# Altium footprint library resistor-net.PCBLIB: 12 footprints
Each footprint in its own frame and in the unit in brackets; x right, y up, seen from the top. Pads: shape width x height; smd on the part's side, far side on the other; paste and mask are expansions set on the pad; w line width, h text height; cw(c..) or ccw(c..) is an arc to the next point about the centre after c.
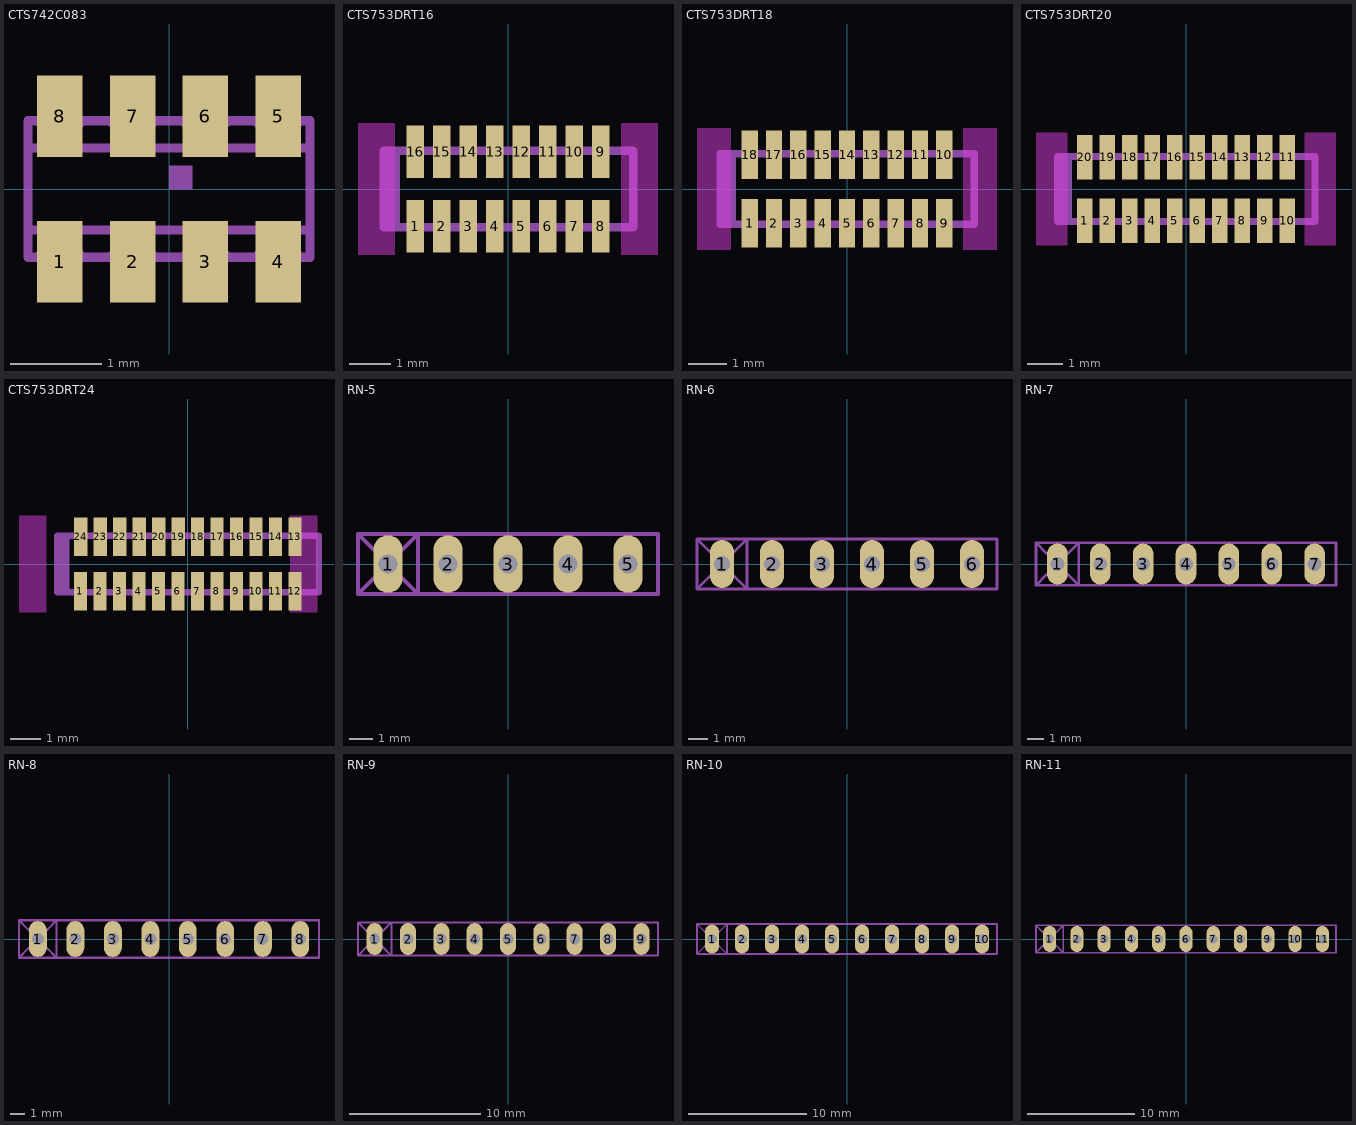
[diagram p0: the footprints below, top view; thin cyan lines are the x and y axes]

## CTS742C083 [mil]
pads (8):
  rect 19.69x35.43 smd mask-17.71: 1(-47.24,-31.5) 2(-15.75,-31.5) 3(15.75,-31.5) 4(47.24,-31.5) 5(47.24,31.5) 6(15.75,31.5) 7(-15.75,31.5) 8(-47.24,31.5)
Top Solder:
  rectangle: -59.06,-51.18 -35.43,-11.81
  rectangle: -27.56,-51.18 -3.94,-11.81
  rectangle: 3.94,-51.18 27.56,-11.81
  rectangle: 35.43,-51.18 59.06,-11.81
  region: 59.06,51.18 35.43,51.18 35.43,11.81 59.06,11.81
  region: 27.56,51.18 3.94,51.18 3.94,11.81 27.56,11.81
  region: -3.94,51.18 -27.56,51.18 -27.56,11.81 -3.94,11.81
  region: -35.43,51.18 -59.06,51.18 -59.06,11.81 -35.43,11.81
Mechanical 2:
  lines w4: -61.02,-29.53 -61.02,29.53 ; 61.02,-29.53 61.02,29.53
Mechanical 18:
  region: 0,0 10,0 10,10 0,10
  region: 0,0 10,0 10,10 0,10
  region: 0,0 10,0 10,10 0,10
  region: 0,0 10,0 10,10 0,10
  region: 0,0 10,0 10,10 0,10
  region: 0,0 10,0 10,10 0,10
  region: 0,0 10,0 10,10 0,10
  region: 0,0 10,0 10,10 0,10
  lines w4: -61.02,-29.53 -57.09,-29.53 -51.18,-23.62 -43.31,-23.62 -37.4,-29.53 -25.59,-29.53 -19.69,-23.62 -11.81,-23.62 -5.91,-29.53 5.91,-29.53 11.81,-23.62 19.69,-23.62 25.59,-29.53 37.4,-29.53 43.31,-23.62 51.18,-23.62 57.09,-29.53 61.02,-29.53 ; -61.02,-17.72 61.02,-17.72 ; -61.02,17.72 61.02,17.72 ; -61.02,29.53 -57.09,29.53 -51.18,23.62 -43.31,23.62 -37.4,29.53 -25.59,29.53 -19.69,23.62 -11.81,23.62 -5.91,29.53 5.91,29.53 11.81,23.62 19.69,23.62 25.59,29.53 37.4,29.53 43.31,23.62 51.18,23.62 57.09,29.53 61.02,29.53

## CTS753DRT16 [mil]
pads (16):
  rect 16.93x50 smd: 1(-88.19,-35.43) 2(-62.99,-35.43) 3(-37.8,-35.43) 4(-12.6,-35.43) 5(12.6,-35.43) 6(37.8,-35.43) 7(62.99,-35.43) 8(88.19,-35.43) 9(88.19,35.43) 10(62.99,35.43) 11(37.8,35.43) 12(12.6,35.43) 13(-12.6,35.43) 14(-37.8,35.43) 15(-62.99,35.43) 16(-88.19,35.43)
Keep-Out Layer:
  rectangle: -142.72,-62.99 -107.28,62.99
  region: 142.72,62.99 107.28,62.99 107.28,-62.99 142.72,-62.99
Mechanical 2:
  rectangle: -118.31,-40.35 -102.56,40.35
  lines w8: -118.31,-36.42 -118.31,36.42 ; 112.4,-36.42 119.29,-36.42 119.29,36.42 112.4,36.42
Mechanical 18:
  rectangle: -95.08,-35.43 -81.3,-11.81
  rectangle: -69.88,-35.43 -56.1,-11.81
  rectangle: -44.69,-35.43 -30.91,-11.81
  rectangle: -19.49,-35.43 -5.71,-11.81
  rectangle: 5.71,-35.43 19.49,-11.81
  rectangle: 30.91,-35.43 44.69,-11.81
  rectangle: 56.1,-35.43 69.88,-11.81
  rectangle: 81.3,-35.43 95.08,-11.81
  region: 95.08,35.43 81.3,35.43 81.3,11.81 95.08,11.81
  region: 69.88,35.43 56.1,35.43 56.1,11.81 69.88,11.81
  region: 44.69,35.43 30.91,35.43 30.91,11.81 44.69,11.81
  region: 19.49,35.43 5.71,35.43 5.71,11.81 19.49,11.81
  region: -5.71,35.43 -19.49,35.43 -19.49,11.81 -5.71,11.81
  region: -30.91,35.43 -44.69,35.43 -44.69,11.81 -30.91,11.81
  region: -56.1,35.43 -69.88,35.43 -69.88,11.81 -56.1,11.81
  region: -81.3,35.43 -95.08,35.43 -95.08,11.81 -81.3,11.81
  lines w8: -118.31,-36.42 119.29,-36.42 ; -118.31,36.42 119.29,36.42

## CTS753DRT18 [mm]
pads (18):
  rect 0.43x1.27 smd: 1(-2.56,-0.9) 2(-1.92,-0.9) 3(-1.28,-0.9) 4(-0.64,-0.9) 5(0,-0.9) 6(0.64,-0.9) 7(1.28,-0.9) 8(1.92,-0.9) 9(2.56,-0.9) 10(2.56,0.9) 11(1.92,0.9) 12(1.28,0.9) 13(0.64,0.9) 14(0,0.9) 15(-0.64,0.9) 16(-1.28,0.9) 17(-1.92,0.9) 18(-2.56,0.9)
Keep-Out Layer:
  rectangle: -3.945,-1.6 -3.045,1.6
  region: 3.945,1.6 3.045,1.6 3.045,-1.6 3.945,-1.6
Mechanical 2:
  rectangle: -3.325,-1.025 -2.925,1.025
  lines w0.203: -3.325,-0.925 -3.325,0.925 ; 3.175,-0.925 3.35,-0.925 3.35,0.925 3.175,0.925
Mechanical 18:
  rectangle: -2.735,-0.9 -2.385,-0.3
  rectangle: -2.095,-0.9 -1.745,-0.3
  rectangle: -1.455,-0.9 -1.105,-0.3
  rectangle: -0.815,-0.9 -0.465,-0.3
  rectangle: -0.175,-0.9 0.175,-0.3
  rectangle: 0.465,-0.9 0.815,-0.3
  rectangle: 1.105,-0.9 1.455,-0.3
  rectangle: 1.745,-0.9 2.095,-0.3
  rectangle: 2.385,-0.9 2.735,-0.3
  region: 2.735,0.9 2.385,0.9 2.385,0.3 2.735,0.3
  region: 2.095,0.9 1.745,0.9 1.745,0.3 2.095,0.3
  region: 1.455,0.9 1.105,0.9 1.105,0.3 1.455,0.3
  region: 0.815,0.9 0.465,0.9 0.465,0.3 0.815,0.3
  region: 0.175,0.9 -0.175,0.9 -0.175,0.3 0.175,0.3
  region: -0.465,0.9 -0.815,0.9 -0.815,0.3 -0.465,0.3
  region: -1.105,0.9 -1.455,0.9 -1.455,0.3 -1.105,0.3
  region: -1.745,0.9 -2.095,0.9 -2.095,0.3 -1.745,0.3
  region: -2.385,0.9 -2.735,0.9 -2.735,0.3 -2.385,0.3
  lines w0.203: -3.325,-0.925 3.35,-0.925 ; -3.325,0.925 3.35,0.925

## CTS753DRT20 [mil]
pads (20):
  rect 16.93x50 smd: 1(-113.39,-35.43) 2(-88.19,-35.43) 3(-62.99,-35.43) 4(-37.8,-35.43) 5(-12.6,-35.43) 6(12.6,-35.43) 7(37.8,-35.43) 8(62.99,-35.43) 9(88.19,-35.43) 10(113.39,-35.43) 11(113.39,35.43) 12(88.19,35.43) 13(62.99,35.43) 14(37.8,35.43) 15(12.6,35.43) 16(-12.6,35.43) 17(-37.8,35.43) 18(-62.99,35.43) 19(-88.19,35.43) 20(-113.39,35.43)
Keep-Out Layer:
  rectangle: -167.91,-62.99 -132.48,62.99
  region: 167.91,62.99 132.48,62.99 132.48,-62.99 167.91,-62.99
Mechanical 2:
  rectangle: -143.5,-40.35 -127.76,40.35
  lines w8: -143.5,-36.42 -143.5,36.42 ; 137.6,-36.42 144.49,-36.42 144.49,36.42 137.6,36.42
Mechanical 18:
  rectangle: -120.28,-35.43 -106.5,-11.81
  rectangle: -95.08,-35.43 -81.3,-11.81
  rectangle: -69.88,-35.43 -56.1,-11.81
  rectangle: -44.69,-35.43 -30.91,-11.81
  rectangle: -19.49,-35.43 -5.71,-11.81
  rectangle: 5.71,-35.43 19.49,-11.81
  rectangle: 30.91,-35.43 44.69,-11.81
  rectangle: 56.1,-35.43 69.88,-11.81
  rectangle: 81.3,-35.43 95.08,-11.81
  rectangle: 106.5,-35.43 120.28,-11.81
  region: 120.28,35.43 106.5,35.43 106.5,11.81 120.28,11.81
  region: 95.08,35.43 81.3,35.43 81.3,11.81 95.08,11.81
  region: 69.88,35.43 56.1,35.43 56.1,11.81 69.88,11.81
  region: 44.69,35.43 30.91,35.43 30.91,11.81 44.69,11.81
  region: 19.49,35.43 5.71,35.43 5.71,11.81 19.49,11.81
  region: -5.71,35.43 -19.49,35.43 -19.49,11.81 -5.71,11.81
  region: -30.91,35.43 -44.69,35.43 -44.69,11.81 -30.91,11.81
  region: -56.1,35.43 -69.88,35.43 -69.88,11.81 -56.1,11.81
  region: -81.3,35.43 -95.08,35.43 -95.08,11.81 -81.3,11.81
  region: -106.5,35.43 -120.28,35.43 -120.28,11.81 -106.5,11.81
  lines w8: -143.5,-36.42 144.49,-36.42 ; -143.5,36.42 144.49,36.42

## CTS753DRT24 [mm]
pads (24):
  rect 0.43x1.27 smd: 1(-3.525,-0.9) 2(-2.885,-0.9) 3(-2.245,-0.9) 4(-1.605,-0.9) 5(-0.965,-0.9) 6(-0.325,-0.9) 7(0.315,-0.9) 8(0.955,-0.9) 9(1.595,-0.9) 10(2.235,-0.9) 11(2.875,-0.9) 12(3.515,-0.9) 13(3.52,0.9) 14(2.885,0.9) 15(2.245,0.9) 16(1.605,0.9) 17(0.965,0.9) 18(0.325,0.9) 19(-0.315,0.9) 20(-0.955,0.9) 21(-1.595,0.9) 22(-2.235,0.9) 23(-2.875,0.9) 24(-3.515,0.9)
Keep-Out Layer:
  rectangle: -5.545,-1.6 -4.645,1.6
  region: 4.265,1.6 3.365,1.6 3.365,-1.6 4.265,-1.6
Mechanical 2:
  rectangle: -4.29,-1.025 -3.89,1.025
  lines w0.203: -4.29,-0.925 -4.29,0.925 ; 4.135,-0.925 4.31,-0.925 4.31,0.925 4.135,0.925
Mechanical 18:
  rectangle: -3.7,-0.9 -3.35,-0.3
  rectangle: -3.06,-0.9 -2.71,-0.3
  rectangle: -2.42,-0.9 -2.07,-0.3
  rectangle: -1.78,-0.9 -1.43,-0.3
  rectangle: -1.14,-0.9 -0.79,-0.3
  rectangle: -0.5,-0.9 -0.15,-0.3
  rectangle: 0.14,-0.9 0.49,-0.3
  rectangle: 0.78,-0.9 1.13,-0.3
  rectangle: 1.42,-0.9 1.77,-0.3
  rectangle: 2.06,-0.9 2.41,-0.3
  rectangle: 2.7,-0.9 3.05,-0.3
  rectangle: 3.34,-0.9 3.69,-0.3
  region: 3.06,0.9 2.71,0.9 2.71,0.3 3.06,0.3
  region: 2.42,0.9 2.07,0.9 2.07,0.3 2.42,0.3
  region: 1.78,0.9 1.43,0.9 1.43,0.3 1.78,0.3
  region: 1.14,0.9 0.79,0.9 0.79,0.3 1.14,0.3
  region: 0.5,0.9 0.15,0.9 0.15,0.3 0.5,0.3
  region: -0.14,0.9 -0.49,0.9 -0.49,0.3 -0.14,0.3
  region: -0.78,0.9 -1.13,0.9 -1.13,0.3 -0.78,0.3
  region: -1.42,0.9 -1.77,0.9 -1.77,0.3 -1.42,0.3
  region: -2.06,0.9 -2.41,0.9 -2.41,0.3 -2.06,0.3
  region: -2.7,0.9 -3.05,0.9 -3.05,0.3 -2.7,0.3
  region: -3.34,0.9 -3.69,0.9 -3.69,0.3 -3.34,0.3
  region: 3.7,0.9 3.35,0.9 3.35,0.3 3.7,0.3
  lines w0.203: -4.29,-0.925 4.31,-0.925 ; -4.29,0.925 4.31,0.925

## RN-5 [mil]
pads (5):
  oval 48x96 hole 32: 1(-200,0) 2(-100,0) 3(0,0) 4(100,0) 5(200,0)
Mechanical 2:
  lines w6: -225,-25 -250,-50 ; -225,25 -250,50 ; -175,-25 -150,-50 ; -175,25 -150,50 ; -250,-50 -250,50 ; -250,-50 -150,-50 ; -250,50 -150,50 ; -150,-50 -150,50 ; -150,-50 250,-50 250,50 -150,50
Mechanical 18:
  lines w6: -224,-24 -176,24 ; -224,24 -176,-24

## RN-6 [mil]
pads (6):
  oval 48x96 hole 32: 1(-250,0) 2(-150,0) 3(-50,0) 4(50,0) 5(150,0) 6(250,0)
Mechanical 2:
  lines w6: -275,-25 -300,-50 ; -275,25 -300,50 ; -225,-25 -200,-50 ; -225,25 -200,50 ; -300,-50 -300,50 ; -300,-50 -200,-50 ; -300,50 -200,50 ; -200,-50 -200,50 ; -200,-50 300,-50 300,50 -200,50
Mechanical 18:
  lines w6: -274,-24 -226,24 ; -274,24 -226,-24

## RN-7 [mil]
pads (7):
  oval 48x96 hole 32: 1(-300,0) 2(-200,0) 3(-100,0) 4(0,0) 5(100,0) 6(200,0) 7(300,0)
Mechanical 2:
  lines w6: -325,-25 -350,-50 ; -325,25 -350,50 ; -275,-25 -250,-50 ; -275,25 -250,50 ; -350,-50 -350,50 ; -350,-50 -250,-50 ; -350,50 -250,50 ; -250,-50 -250,50 ; -250,-50 350,-50 350,50 -250,50
Mechanical 18:
  lines w6: -324,-24 -276,24 ; -324,24 -276,-24

## RN-8 [mil]
pads (8):
  oval 48x96 hole 32: 1(-350,0) 2(-250,0) 3(-150,0) 4(-50,0) 5(50,0) 6(150,0) 7(250,0) 8(350,0)
Mechanical 2:
  lines w6: -375,-25 -400,-50 ; -375,25 -400,50 ; -325,-25 -300,-50 ; -325,25 -300,50 ; -400,-50 -400,50 ; -400,-50 -300,-50 ; -400,50 -300,50 ; -300,-50 -300,50 ; -300,-50 400,-50 400,50 -300,50
Mechanical 18:
  lines w6: -374,-24 -326,24 ; -374,24 -326,-24

## RN-9 [mil]
pads (9):
  oval 48x96 hole 32: 1(-400,0) 2(-300,0) 3(-200,0) 4(-100,0) 5(0,0) 6(100,0) 7(200,0) 8(300,0) 9(400,0)
Mechanical 2:
  lines w6: -425,-25 -450,-50 ; -425,25 -450,50 ; -375,-25 -350,-50 ; -375,25 -350,50 ; -450,-50 -450,50 ; -450,-50 -350,-50 ; -450,50 -350,50 ; -350,-50 -350,50 ; -350,-50 450,-50 450,50 -350,50
Mechanical 18:
  lines w6: -424,-24 -376,24 ; -424,24 -376,-24

## RN-10 [mil]
pads (10):
  oval 48x96 hole 32: 1(-450,0) 2(-350,0) 3(-250,0) 4(-150,0) 5(-50,0) 6(50,0) 7(150,0) 8(250,0) 9(350,0) 10(450,0)
Mechanical 2:
  lines w6: -475,-25 -500,-50 ; -475,25 -500,50 ; -425,-25 -400,-50 ; -425,25 -400,50 ; -500,-50 -500,50 ; -500,-50 -400,-50 ; -500,50 -400,50 ; -400,-50 -400,50 ; -400,-50 500,-50 500,50 -400,50
Mechanical 18:
  lines w6: -474,-24 -426,24 ; -474,24 -426,-24

## RN-11 [mil]
pads (11):
  oval 48x96 hole 32: 1(-500,0) 2(-400,0) 3(-300,0) 4(-200,0) 5(-100,0) 6(0,0) 7(100,0) 8(200,0) 9(300,0) 10(400,0) 11(500,0)
Mechanical 2:
  lines w6: -525,-25 -550,-50 ; -525,25 -550,50 ; -475,-25 -450,-50 ; -475,25 -450,50 ; -550,-50 -550,50 ; -550,-50 -450,-50 ; -550,50 -450,50 ; -450,-50 -450,50 ; -450,-50 550,-50 550,50 -450,50
Mechanical 18:
  lines w6: -524,-24 -476,24 ; -524,24 -476,-24